# EAGLE library part 2X5_1.27MM (library headers-1mm)
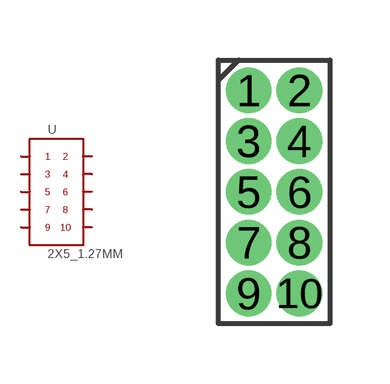
[diagram p3: symbol with the pads of 2X5_1.27MM; footprint 2X5_1.27MM]

Designator prefix -

## 2X5_1.27MM  [2X5_1.27MM]
1  1
2  2
3  3
4  4
5  5
6  6
7  7
8  8
9  9
10  10

## Footprint 2X5_1.27MM (pad centres in mm)
drill 0.635 pad 1.016: 1 0,0; 2 1.27,0; 3 0,-1.27; 4 1.27,-1.27; 5 0,-2.54; 6 1.27,-2.54; 7 0,-3.81; 8 1.27,-3.81; 9 0,-5.08; 10 1.27,-5.08